# EAGLE library part G5RL1AELN24DC_G5RL1AELN24DC (library HexaWall-v1.1)
Electromechanical Relay 24VDC 1.086KOhm 16A SPST-NO (29x12.7x15.7)mm THT Power Relay
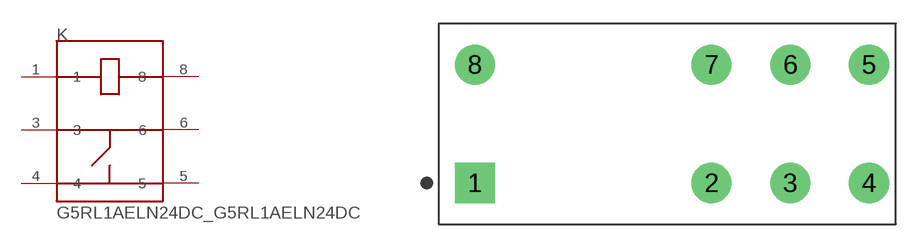
[diagram p1: symbol with the pads of G5RL1AELN24DC_G5RL-1-E-HR; footprint G5RL1AELN24DC_G5RL-1-E-HR]

Designator prefix K

## G5RL1AELN24DC_G5RL1AELN24DC  [G5RL1AELN24DC_G5RL-1-E-HR]
1  1  pas
3  3  pas
4  4  pas
5  5  pas
6  6  pas
8  8  pas

## Footprint G5RL1AELN24DC_G5RL-1-E-HR (pad centres in mm)
drill 1.3 pad 2.54 square: 1 -12.5,-3.75
drill 1.3 pad 2.54: 2 2.5,-3.75; 3 7.5,-3.75; 4 12.5,-3.75; 5 12.5,3.75; 6 7.5,3.75; 7 2.5,3.75; 8 -12.5,3.75